# EAGLE library part HEADER-1X6 (library ATtami)
PIN HEADER
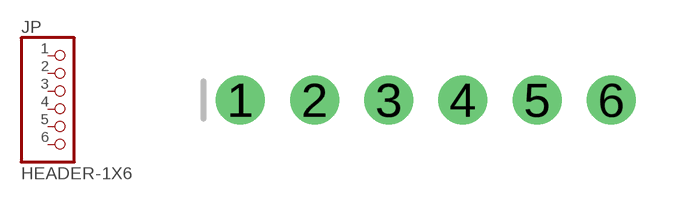
[diagram p4: symbol with the pads of 1X06_ROUND; footprint 1X06_ROUND]

Designator prefix JP

## HEADER-1X6ROUND  [1X06_ROUND]
1  1  pas
2  2  pas
3  3  pas
4  4  pas
5  5  pas
6  6  pas

## Footprint 1X06_ROUND (pad centres in mm)
drill 1 pad 1.676: 1 -6.35,0; 2 -3.81,0; 3 -1.27,0; 4 1.27,0; 5 3.81,0; 6 6.35,0